# Altium footprint library rsens.PcbLib: 2 footprints
Each footprint in its own frame and in the unit in brackets; x right, y up, seen from the top. Pads: shape width x height; smd on the part's side, far side on the other; paste and mask are expansions set on the pad; w line width, h text height; cw(c..) or ccw(c..) is an arc to the next point about the centre after c.
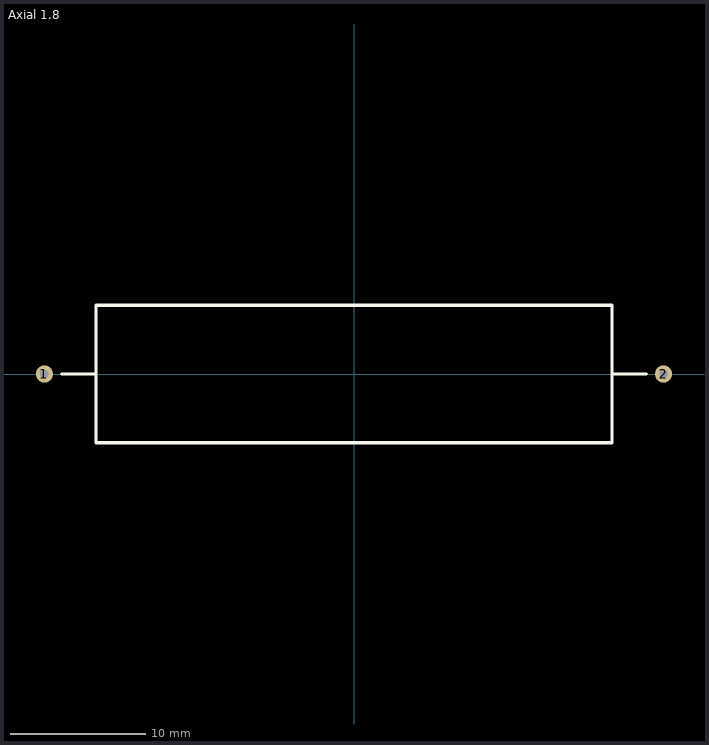
[diagram p0: the footprints below, top view; thin cyan lines are the x and y axes]

## Axial 1.8 [mil]
pads (2):
  round 50 hole 25: 1(-900,0) 2(900,0)
Top Overlay:
  lines w10: -850,0 -750,0 ; 750,0 850,0 ; -750,0 -750,-200 750,-200 750,200 -750,200 -750,0

## PCBComponent_1 [mil]